# Altium footprint library XW05200-10.PcbLib: 1 footprints
Each footprint in its own frame and in the unit in brackets; x right, y up, seen from the top. Pads: shape width x height; smd on the part's side, far side on the other; paste and mask are expansions set on the pad; w line width, h text height; cw(c..) or ccw(c..) is an arc to the next point about the centre after c.
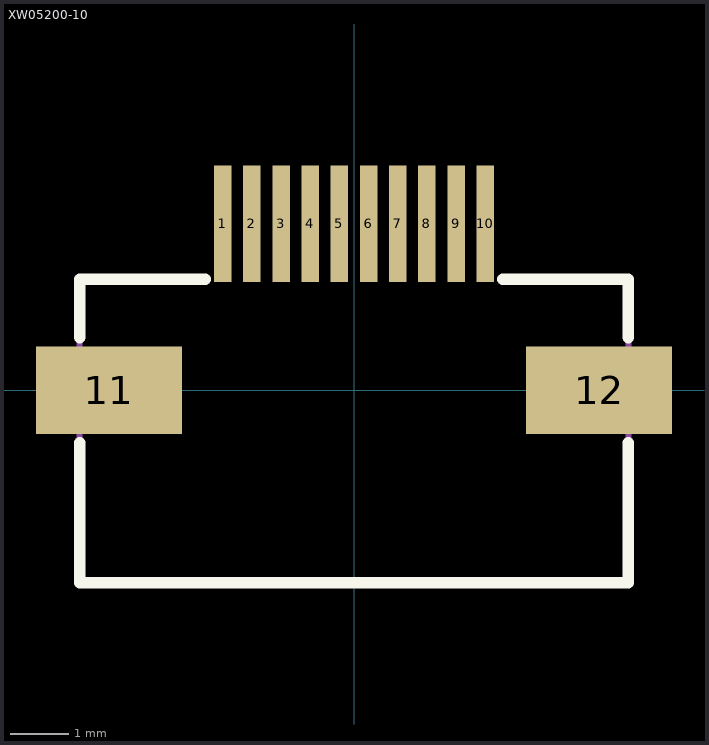
[diagram p0: the footprint, top view; thin cyan lines are the x and y axes]

## XW05200-10 [mm]
pads (12):
  rect 0.3x2 smd: 1(-2.25,2.85) 2(-1.75,2.85) 3(-1.25,2.85) 4(-0.75,2.85) 5(-0.25,2.85) 6(0.25,2.85) 7(0.75,2.85) 8(1.25,2.85) 9(1.75,2.85) 10(2.25,2.85)
  rect 2.5x1.5 smd: 11(-4.2,0) 12(4.2,0)
Top Overlay:
  lines w0.2: -4.7,-0.9 -4.7,-3.3 4.7,-3.3 ; -4.7,0.9 -4.7,1.9 -2.55,1.9 ; 2.55,1.9 4.7,1.9 4.7,0.9 ; 4.7,-0.9 4.7,-3.3 ; 4.7,-3.3 4.7,-3.3
Top Assembly:
  lines w0.1: -2.5,1.9 -4.7,1.9 -4.7,-3.3 4.7,-3.3 4.7,1.9 2.5,1.9
  text "'.Designator'" at -0.575,-0.375 h0.7
3D body "Mintron-XW05200-10.STEP": height 2, standoff 0, extent -4.7,-3.15 4.7,2.85